# EAGLE library part BTH-030-XX-X-D-A (library parallella)
SAMTEC BTH-030-XX-X-D-A connectors 0,50 mm Basic Blade & Beam Terminal Strip
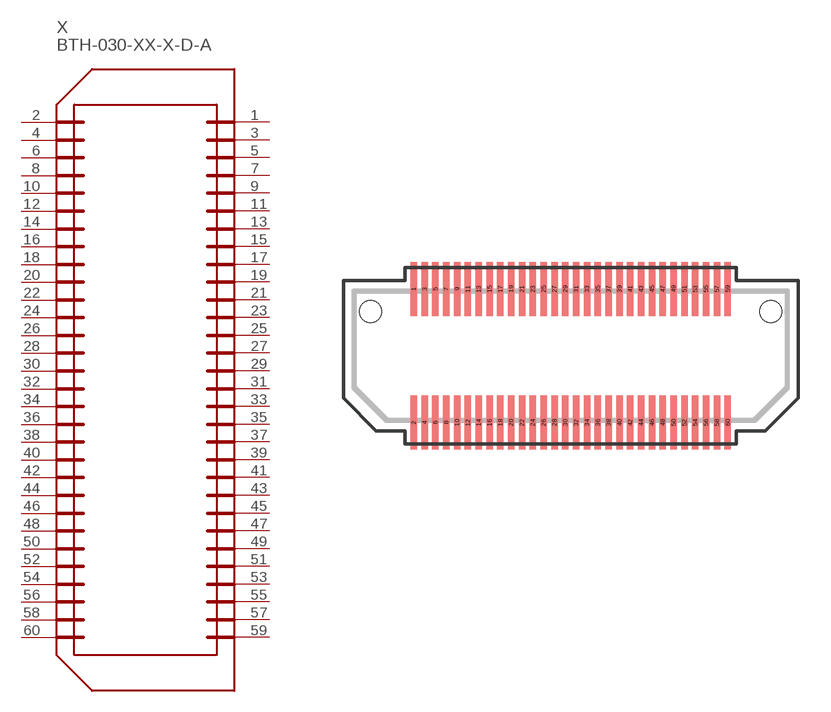
[diagram p0: symbol with the pads of BTH-030-XX-X-D-A; footprint BTH-030-XX-X-D-A]

Designator prefix X

## BTH-030-XX-X-D-A  [BTH-030-XX-X-D-A]
1  1  pas
2  2  pas
3  3  pas
4  4  pas
5  5  pas
6  6  pas
7  7  pas
8  8  pas
9  9  pas
10  10  pas
11  11  pas
12  12  pas
13  13  pas
14  14  pas
15  15  pas
16  16  pas
17  17  pas
18  18  pas
19  19  pas
20  20  pas
21  21  pas
22  22  pas
23  23  pas
24  24  pas
25  25  pas
26  26  pas
27  27  pas
28  28  pas
29  29  pas
30  30  pas
31  31  pas
32  32  pas
33  33  pas
34  34  pas
35  35  pas
36  36  pas
37  37  pas
38  38  pas
39  39  pas
40  40  pas
41  41  pas
42  42  pas
43  43  pas
44  44  pas
45  45  pas
46  46  pas
47  47  pas
48  48  pas
49  49  pas
50  50  pas
51  51  pas
52  52  pas
53  53  pas
54  54  pas
55  55  pas
56  56  pas
57  57  pas
58  58  pas
59  59  pas
60  60  pas

## Footprint BTH-030-XX-X-D-A (pad centres in mm)
SAMTEC BTH-030-XX-X-D-A connectors 0,50 mm Basic Blade & Beam Terminal Strip
smd 0.3 x 2.5: 1 -7.25,3.086; 2 -7.25,-3.086; 3 -6.75,3.086; 4 -6.75,-3.086; 5 -6.25,3.086; 6 -6.25,-3.086; 7 -5.75,3.086; 8 -5.75,-3.086; 9 -5.25,3.086; 10 -5.25,-3.086; 11 -4.75,3.086; 12 -4.75,-3.086; 13 -4.25,3.086; 14 -4.25,-3.086; 15 -3.75,3.086; 16 -3.75,-3.086; 17 -3.25,3.086; 18 -3.25,-3.086; 19 -2.75,3.086; 20 -2.75,-3.086; 21 -2.25,3.086; 22 -2.25,-3.086; 23 -1.75,3.086; 24 -1.75,-3.086; 25 -1.25,3.086; 26 -1.25,-3.086; 27 -0.75,3.086; 28 -0.75,-3.086; 29 -0.25,3.086; 30 -0.25,-3.086; 31 0.25,3.086; 32 0.25,-3.086; 33 0.75,3.086; 34 0.75,-3.086; 35 1.25,3.086; 36 1.25,-3.086; 37 1.75,3.086; 38 1.75,-3.086; 39 2.25,3.086; 40 2.25,-3.086; 41 2.75,3.086; 42 2.75,-3.086; 43 3.25,3.086; 44 3.25,-3.086; 45 3.75,3.086; 46 3.75,-3.086; 47 4.25,3.086; 48 4.25,-3.086; 49 4.75,3.086; 50 4.75,-3.086; 51 5.25,3.086; 52 5.25,-3.086; 53 5.75,3.086; 54 5.75,-3.086; 55 6.25,3.086; 56 6.25,-3.086; 57 6.75,3.086; 58 6.75,-3.086; 59 7.25,3.086; 60 7.25,-3.086
hole 1.016 at -9.246,2.032
hole 1.016 at 9.246,2.032